# Altium schematic symbol library _REEL.SchLib: 1 symbol
Pins are listed as number, name and electrical type; pins without a type are passive.

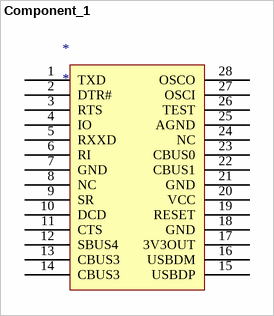
[diagram p0: symbol Component_1]

## Component_1
designator *
footprint Quad28 FTDI
pins: 1 TXD, 2 DTR#, 3 RTS, 4 IO, 5 RXXD, 6 RI , 7 GND, 8 NC, 9 SR, 10 DCD, 11 CTS, 12 SBUS4, 13 CBUS3, 14 CBUS3, 15 USBDP, 16 USBDM, 17 3V3OUT, 18 GND, 19 RESET, 20 VCC, 21 GND, 22 CBUS1, 23 CBUS0, 24 NC, 25 AGND, 26 TEST, 27 OSCI, 28 OSCO